# Altium schematic symbol library SS59ET.SchLib: 1 symbol
Pins are listed as number, name and electrical type; pins without a type are passive.

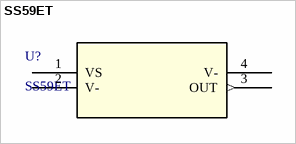
[diagram p0: symbol SS59ET]

## SS59ET
designator U?
No Description Available; Manufacturer_Name: Honeywell; Copyright: Copyright (C) 2026 Ultra Librarian. All rights reserved.; Manufacturer_Part_Number: SS59ET; RefDes: RefDes; Type: Type
footprint SOT-89B_HNW
pins: 1 VS, 2 V- (power), 3 OUT (out), 4 V- (power)